# Altium footprint library FPGALIB.PCBLIB: 27 footprints (part 2 of 2)
Each footprint in its own frame and in the unit in brackets; x right, y up, seen from the top. Pads: shape width x height; smd on the part's side, far side on the other; paste and mask are expansions set on the pad; w line width, h text height; cw(c..) or ccw(c..) is an arc to the next point about the centre after c.
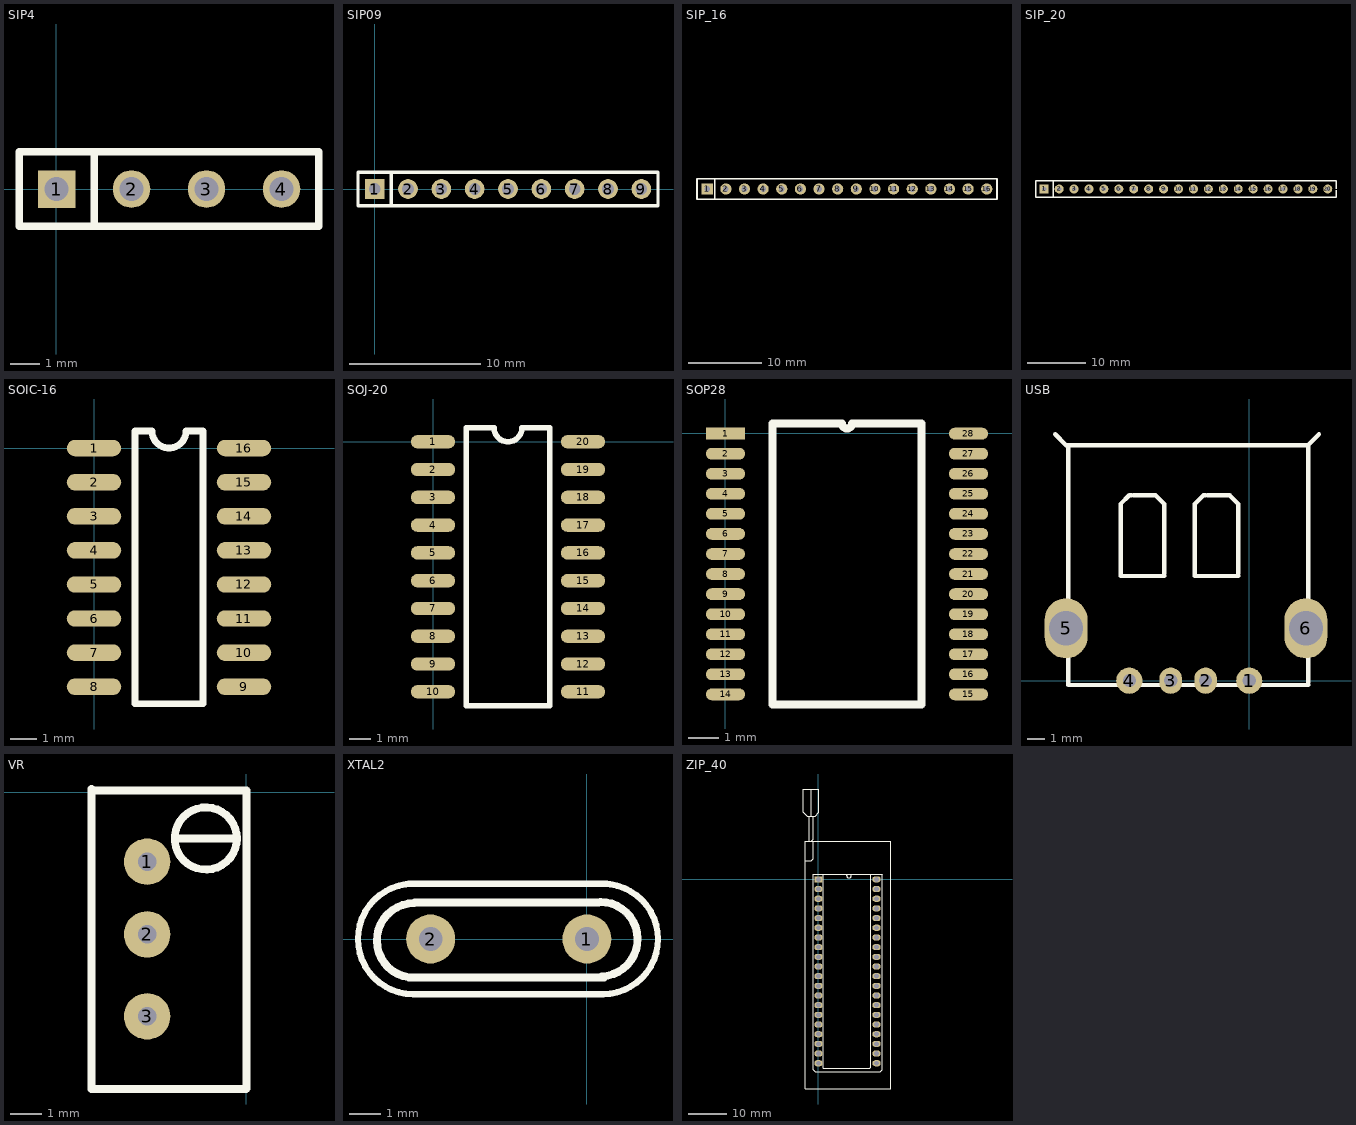
[diagram p1: the footprints below, top view; thin cyan lines are the x and y axes]

## SIP4 [mil]
pads (4):
  rect 50x50 hole 32: 1(0.5,0.49)
  round 50 hole 32: 2(100.5,0.49) 3(200.5,0.49) 4(300.5,0.49)
TopOverlay:
  lines w10: 50.5,-49.51 50.5,50.49 ; -49.5,-49.51 -49.5,50.49 350.5,50.49 350.5,-49.51 -49.5,-49.51

## SIP09 [mm]
pads (9):
  rect 1.5x1.5 hole 0.9: 1(0,0)
  round 1.5 hole 0.9: 2(2.54,0) 3(5.08,0) 4(7.62,0) 5(10.16,0) 6(12.7,0) 7(15.24,0) 8(17.78,0) 9(20.32,0)
TopOverlay:
  lines w0.254: 1.27,-1.27 1.27,1.27 ; -1.27,-1.27 21.59,-1.27 21.59,1.27 -1.27,1.27 -1.27,-1.27

## SIP_16 [mil]
pads (16):
  rect 60x60 hole 30: 1(5999,-20000)
  round 60 hole 30: 2(6099,-20000) 3(6199,-20000) 4(6299,-20000) 5(6399,-20000) 6(6499,-20000) 7(6599,-20000) 8(6699,-20000) 9(6799,-20000) 10(6899,-20000) 11(6999,-20000) 12(7099,-20000) 13(7199,-20000) 14(7299,-20000) 15(7399,-20000) 16(7499,-20000)
TopOverlay:
  lines w10: 6039.5,-20055 6039.5,-19945 ; 5944,-20055 5999,-20055 7499,-20055 7554,-20055 7554,-20000 7554,-19945 7499,-19945 5999,-19945 5944,-19945 5944,-20000 5944,-20055

## SIP_20 [mil]
pads (20):
  rect 60x60 hole 30: 1(3099,11900)
  round 60 hole 30: 2(3199,11900) 3(3299,11900) 4(3399,11900) 5(3499,11900) 6(3599,11900) 7(3699,11900) 8(3799,11900) 9(3899,11900) 10(3999,11900) 11(4099,11900) 12(4199,11900) 13(4299,11900) 14(4399,11900) 15(4499,11900) 16(4599,11900) 17(4699,11900) 18(4799,11900) 19(4899,11900) 20(4999,11900)
TopOverlay:
  lines w10: 3159.5,11845 3159.5,11955 ; 5054,11890 5054,11845 4999,11845 3099,11845 3089,11845 3044,11845 3044,11890 3044,11900 3044,11955 3099,11955 4999,11955 5054,11955 5054,11900

## SOIC-16 [mil]
pads (16):
  oval 80x24 smd: 1(0,0) 2(0,-50) 3(0,-100) 4(0,-150) 5(0,-200) 6(0,-250) 7(0,-300) 8(0,-350) 9(220,-350) 10(220,-300) 11(220,-250) 12(220,-200) 13(220,-150) 14(220,-100) 15(220,-50) 16(220,0)
TopOverlay:
  lines w10: 60,-375 60,25 85,25 ccw(c110,25) 135,25 160,25 160,-375 60,-375

## SOJ-20 [mil]
pads (20):
  oval 80x24 smd: 1(0,0) 2(0,-50) 3(0,-100) 4(0,-150) 5(0,-200) 6(0,-250) 7(0,-300) 8(0,-350) 9(0,-400) 10(0,-450) 11(270,-450) 12(270,-400) 13(270,-350) 14(270,-300) 15(270,-250) 16(270,-200) 17(270,-150) 18(270,-100) 19(270,-50) 20(270,0)
TopOverlay:
  lines w10: 60,-475 60,25 110,25 ccw(c135,25) 160,25 210,25 210,-475 60,-475

## SOP28 [mil]
pads (28):
  rect 50x15 smd: 1(0.5,-0.23)
  oval 50x15 smd: 2(0.5,-25.83) 3(0.5,-51.43) 4(0.5,-77.03) 5(0.5,-102.63) 6(0.5,-128.23) 7(0.5,-153.83) 8(0.5,-179.43) 9(0.5,-205.03) 10(0.5,-230.63) 11(0.5,-256.23) 12(0.5,-281.83) 13(0.5,-307.43) 14(0.5,-333.03) 15(310.5,-333.03) 16(310.5,-307.43) 17(310.5,-281.83) 18(310.5,-256.23) 19(310.5,-230.63) 20(310.5,-205.03) 21(310.5,-179.43) 22(310.5,-153.83) 23(310.5,-128.23) 24(310.5,-102.63) 25(310.5,-77.03) 26(310.5,-51.43) 27(310.5,-25.83) 28(310.5,-0.23)
TopOverlay:
  lines w10: 60.5,-345.83 250.5,-345.83 250.5,12.57 161.9,12.57 cw(c155.5,12.57) 149.1,12.57 60.5,12.57 60.5,-345.83

## USB [mil]
pads (6):
  round 60 hole 30: 1(0,0) 4(-275,0)
  oval 52.13x60 hole 30: 2(-100,0) 3(-180,0)
  oval 98.42x137.79 hole 78.74: 5(-420,120) 6(130,120)
TopOverlay:
  lines w10: -445,565 -420,540 -415,540 ; -270,425 -275,425 -295,405 -295,240 -195,240 ; -265,425 -215,425 -195,405 -195,245 ; -100,425 -105,425 -125,405 -125,240 -25,240 ; -95,425 -45,425 -25,405 -25,245 ; 135,-10 -415,-10 -415,540 ; 135,-5 135,540 ; 160,565 135,540 ; -415,540 135,540

## VR [mm]
pads (3):
  round 1.5 hole 0.6: 1(-3.2,-2.25) 2(-3.2,-4.6) 3(-3.2,-7.25)
TopOverlay:
  circle w0.254: c-1.305,-1.5 r1.005
  lines w0.254: -2.3,-1.5 -0.3,-1.5 ; -5,-9.6 0,-9.6 0.011,-9.589 0.011,0.054 -4.766,0.054 -4.954,0.054 -5,0.1 -5,-0.18 -5,-9.6

## XTAL2 [mil]
pads (2):
  round 62 hole 30: 1(0,0) 2(-198,0)
TopOverlay:
  lines w8: -226,70 25,70 ; -220,-70 cw(c-220,0) -220,70 ; -218,-70 21,-70 ; 20,-70 ccw(c20,0) 20,70
  lines w10: -218.98,45.36 ccw(c-218.98,-1.83) -218,-49 21.65,-49 ; -218,46 15,46 ; 17,47 cw(c17,-0.18) 18.68,-47.34

## ZIP_40 [mm]
pads (40):
  rect 2.2x1.6 hole 1.3: 1(0,0)
  oval 2.2x1.6 hole 1.3: 2(0,-2.54) 3(0,-5.08) 4(0,-7.62) 5(0,-10.16) 6(0,-12.7) 7(0,-15.24) 8(0,-17.78) 9(0,-20.32) 10(0,-22.86) 11(0,-25.4) 12(0,-27.94) 13(0,-30.48) 14(0,-33.02) 15(0,-35.56) 16(0,-38.1) 17(0,-40.64) 18(0,-43.18) 19(0,-45.72) 20(0,-48.26) 21(15.24,-48.26) 22(15.24,-45.72) 23(15.24,-43.18) 24(15.24,-40.64) 25(15.24,-38.1) 26(15.24,-35.56) 27(15.24,-33.02) 28(15.24,-30.48) 29(15.24,-27.94) 30(15.24,-25.4) 31(15.24,-22.86) 32(15.24,-20.32) 33(15.24,-17.78) 34(15.24,-15.24) 35(15.24,-12.7) 36(15.24,-10.16) 37(15.24,-7.62) 38(15.24,-5.08) 39(15.24,-2.54) 40(15.24,0)
TopOverlay:
  lines w0.25: 1.135,-50.446 14.343,-50.446
  lines w0.254: -3.437,4.926 -1.913,4.926 -1.405,5.434 -1.405,10.006 ; -2.421,16.61 -2.421,10.006 -1.913,10.006 -1.405,10.514 -1.405,16.61 ; 1.27,1.27 1.27,-49.53 13.462,-49.53 13.716,-49.276 13.716,1.37 ; 7.112,1.37 7.366,1.116 ; 8.636,1.37 8.636,1.016 cw(c8.001,1.016) 7.366,1.016 ; -1.913,16.61 -1.913,23.722 ; -1.913,16.61 -0.897,16.61 0.119,17.626 0.119,23.722 -1.913,23.722 ; -1.913,16.61 -2.929,16.61 -3.945,17.626 -3.945,23.722 -1.913,23.722 ; -1.913,16.61 -1.913,23.722 ; 7.366,1.016 7.366,1.116 ; 7.366,1.016 7.366,1.116 ; -3.437,-55.018 -3.437,10.006 18.915,10.006 18.915,-55.018 -3.437,-55.018 ; -1.405,-49.938 -1.405,1.37 16.61,1.37 16.764,1.216 16.764,1.016 16.764,-49.938 16.256,-50.446 -0.897,-50.446 -1.405,-49.938